# Altium footprint library Apollo.PcbLib: 47 footprints (part 1 of 3)
Each footprint in its own frame and in the unit in brackets; x right, y up, seen from the top. Pads: shape width x height; smd on the part's side, far side on the other; paste and mask are expansions set on the pad; w line width, h text height; cw(c..) or ccw(c..) is an arc to the next point about the centre after c.
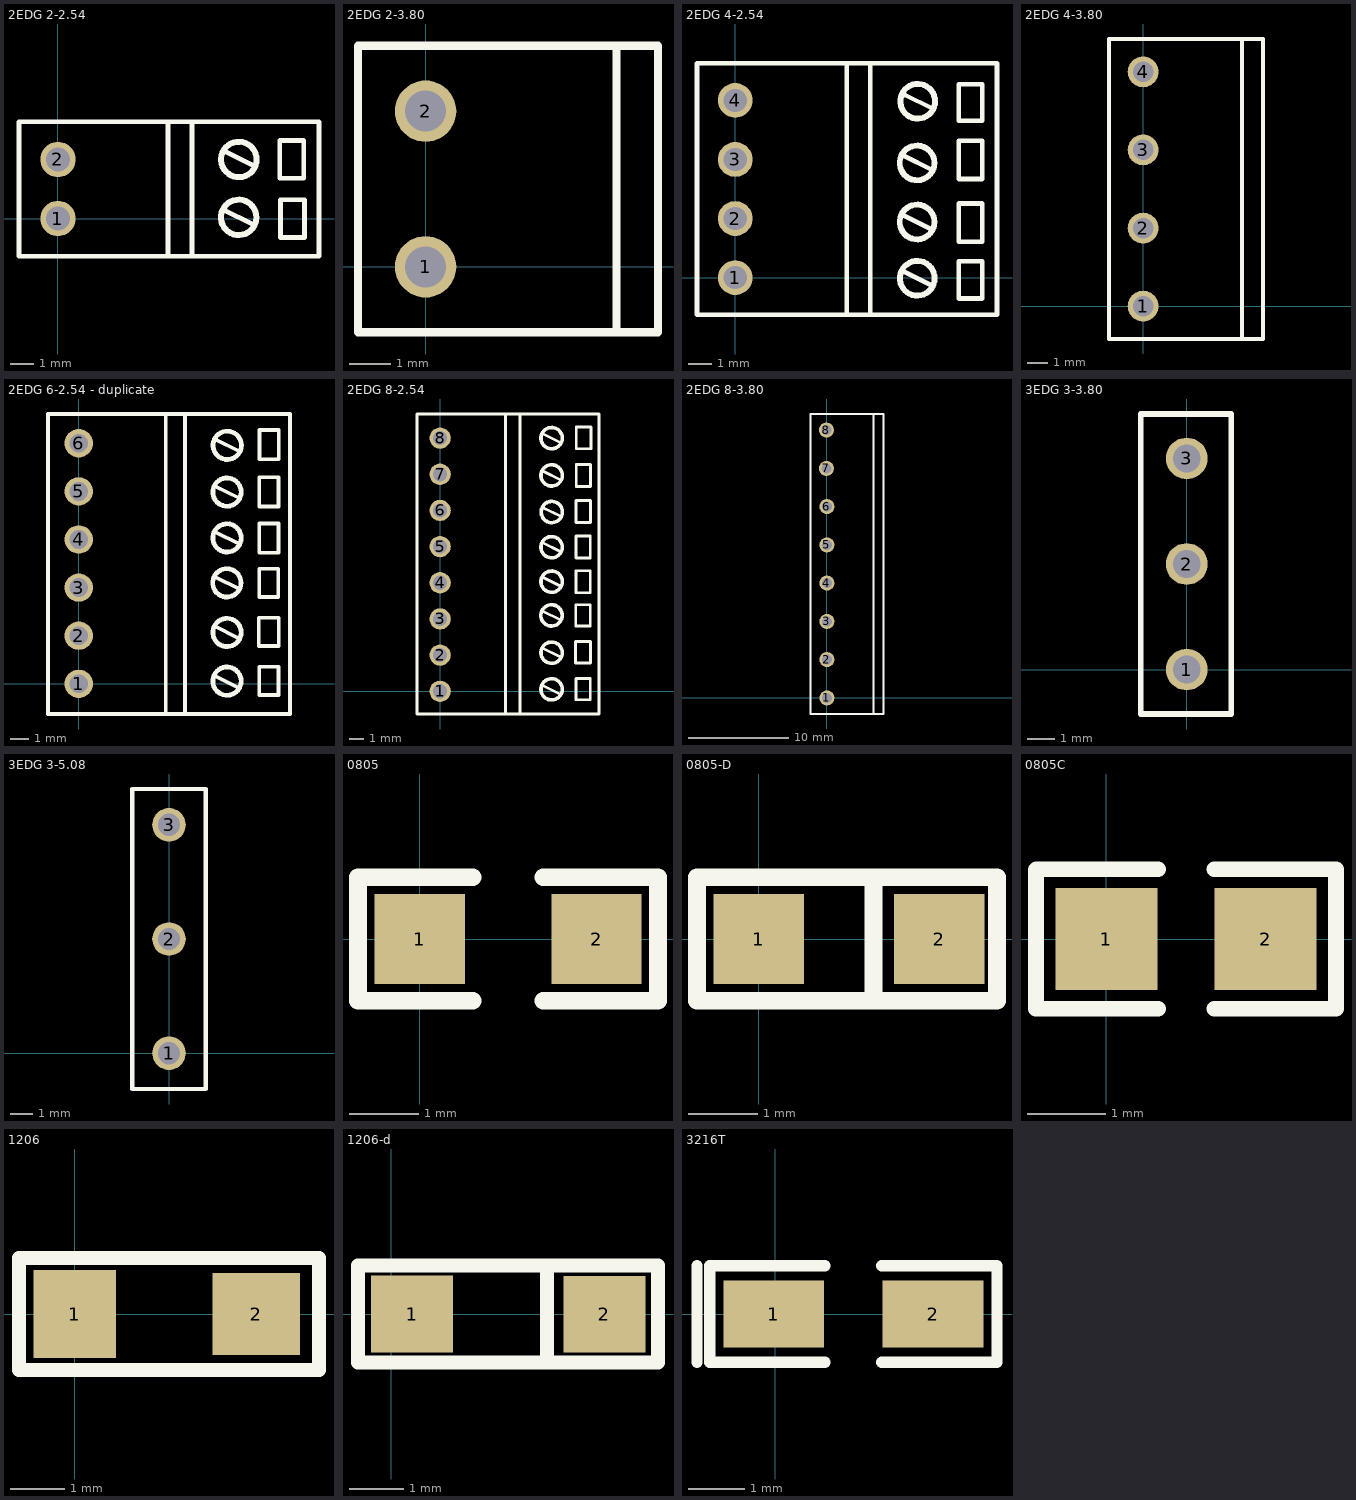
[diagram p0: the footprints below, top view; thin cyan lines are the x and y axes]

## 2EDG 2-2.54 [mm]
pads (2):
  round 1.5 hole 1: 1(0,0) 2(0,2.5)
Top Overlay:
  circle w0.254: c7.65,0.05 r0.75
  circle w0.254: c7.658,2.5 r0.75
  lines w0.2: 4.9,-1.6 -1.65,-1.6 -1.65,4.1 4.66,4.1 ; 5.676,-1.6 5.676,4.1 ; 6.96,0.395 8.28,-0.265 ; 7.012,2.873 8.372,2.193 ; 4.66,4.1 11.05,4.1 11.05,-1.6 4.66,-1.6 4.66,4.1 ; 9.392,1.7 10.408,1.7 10.408,3.3 9.392,3.3 9.392,1.7 ; 9.422,-0.8 10.438,-0.8 10.438,0.8 9.422,0.8 9.422,-0.8

## 2EDG 2-3.80 [mm]
pads (2):
  round 1.5 hole 1: 1(0,0) 2(0,3.8)
Top Overlay:
  lines w0.2: 4.66,-1.6 4.66,5.4 ; 5.65,-1.6 -1.65,-1.6 -1.65,5.4 4.66,5.4 ; 5.676,-1.6 5.676,5.4 4.66,5.4

## 2EDG 4-2.54 [mm]
pads (4):
  round 1.5 hole 1: 1(0,0) 2(0,2.55) 3(0,5.1) 4(0,7.65)
Top Overlay:
  circle w0.254: c7.858,-0.029 r0.75
  circle w0.254: c7.85,4.95 r0.75
  circle w0.254: c7.876,7.612 r0.75
  circle w0.254: c7.85,2.4 r0.75
  lines w0.2: 4.81,-1.6 4.81,-0.986 4.81,9.25 ; 5.826,-1.6 5.826,-0.986 5.826,9.25 ; 7.168,2.735 8.548,2.045 ; 7.216,0.292 8.456,-0.328 ; 7.28,5.259 8.5,4.649 ; 7.33,7.885 8.47,7.315 ; 4.81,9.25 11.3,9.25 11.3,1.184 11.3,-1.6 -1.65,-1.6 -1.65,9.25 4.81,9.25 ; 9.65,-0.9 10.666,-0.9 10.666,0.7 9.65,0.7 9.65,-0.9 ; 9.65,1.55 9.65,3.2 10.666,3.2 10.666,1.55 9.65,1.55 ; 9.65,4.256 10.666,4.256 10.666,5.9 9.65,5.9 9.65,4.256 ; 9.65,6.776 10.666,6.776 10.666,8.35 9.65,8.35 9.65,6.776

## 2EDG 4-3.80 [mm]
pads (4):
  round 1.5 hole 1: 1(0,0) 2(0,3.8) 3(0,7.6) 4(0,11.4)
Top Overlay:
  lines w0.2: 4.35,13 5.826,13 5.826,-0.986 5.826,-1.6 -1.65,-1.6 -1.65,13 4.81,13 4.81,-0.986 4.81,-1.6

## 2EDG 6-2.54 - duplicate [mm]
pads (6):
  round 1.5 hole 1: 1(0,0) 2(0,2.55) 3(0,5.1) 4(0,7.65) 5(0,10.2) 6(0,12.75)
Top Overlay:
  circle w0.254: c7.858,0.14 r0.75
  circle w0.254: c7.858,2.72 r0.75
  circle w0.254: c7.858,10.16 r0.75
  circle w0.254: c7.87,12.64 r0.75
  circle w0.254: c7.858,7.73 r0.75
  circle w0.254: c7.85,5.35 r0.75
  lines w0.2: 4.61,-1.6 4.61,9.264 4.61,14.3 ; 5.626,-1.6 5.626,9.264 5.626,14.25 ; 7.16,3.069 8.52,2.389 ; 7.176,10.501 8.536,9.821 ; 7.18,12.985 8.56,12.295 ; 7.188,0.425 8.528,-0.245 ; 7.204,8.057 8.544,7.387 ; 7.244,5.653 8.484,5.033 ; 4.61,14.3 11.2,14.3 11.2,5.694 11.2,-1.6 -1.632,-1.6 -1.632,3.326 -1.632,12.92 -1.632,14.3 4.61,14.3 ; 9.542,2 9.542,3.5 10.6,3.5 10.6,2 9.542,2 ; 9.564,4.6 10.58,4.6 10.58,6.1 9.564,6.1 9.564,4.6 ; 9.572,-0.6 10.588,-0.6 10.588,0.9 9.572,0.9 9.572,-0.6 ; 9.572,6.95 9.572,8.5 10.588,8.5 10.588,6.95 9.572,6.95 ; 9.572,9.4 10.588,9.4 10.588,10.95 9.572,10.95 9.572,9.4 ; 9.584,11.9 9.584,13.45 10.6,13.45 10.6,11.9 9.584,11.9

## 2EDG 8-2.54 [mm]
pads (8):
  round 1.5 hole 1: 1(0,0) 2(0,2.55) 3(0,5.1) 4(0,7.65) 5(0,10.2) 6(0,12.75) 7(0,15.3) 8(0,17.85)
Top Overlay:
  circle w0.254: c7.85,5.35 r0.75
  circle w0.254: c7.858,7.73 r0.75
  circle w0.254: c7.87,12.64 r0.75
  circle w0.254: c7.858,17.85 r0.75
  circle w0.254: c7.858,15.22 r0.75
  circle w0.254: c7.858,10.16 r0.75
  circle w0.254: c7.858,2.72 r0.75
  circle w0.254: c7.858,0.14 r0.75
  lines w0.2: 4.61,-1.6 4.61,9.264 4.61,19.55 ; 5.626,-1.6 5.626,9.264 5.626,19.55 ; 7.16,3.069 8.52,2.389 ; 7.172,18.193 8.512,17.523 ; 7.176,10.501 8.536,9.821 ; 7.18,12.985 8.56,12.295 ; 7.188,0.425 8.528,-0.245 ; 7.204,8.057 8.544,7.387 ; 7.24,15.529 8.54,14.879 ; 7.244,5.653 8.484,5.033 ; 4.61,19.55 -1.632,19.55 -1.632,12.92 -1.632,3.326 -1.632,-1.6 11.2,-1.6 11.2,5.694 11.2,19.55 4.61,19.55 ; 9.542,2 10.6,2 10.6,3.5 9.542,3.5 9.542,2 ; 9.564,4.6 9.564,6.1 10.58,6.1 10.58,4.6 9.564,4.6 ; 9.572,-0.6 9.572,0.9 10.588,0.9 10.588,-0.6 9.572,-0.6 ; 9.572,6.95 10.588,6.95 10.588,8.5 9.572,8.5 9.572,6.95 ; 9.572,9.4 9.572,10.95 10.588,10.95 10.588,9.4 9.572,9.4 ; 9.584,11.9 10.6,11.9 10.6,13.45 9.584,13.45 9.584,11.9 ; 9.592,14.45 9.592,16 10.608,16 10.608,14.45 9.592,14.45 ; 9.6,17.1 9.6,18.625 10.638,18.625 10.638,17.1 9.6,17.1

## 2EDG 8-3.80 [mm]
pads (8):
  round 1.5 hole 1: 1(0,0) 2(0,3.8) 3(0,7.6) 4(0,11.4) 5(0,15.2) 6(0,19) 7(-0.05,22.8) 8(-0.05,26.6)
Top Overlay:
  lines w0.2: 4.61,-1.6 4.61,9.264 4.61,28.2 ; 5.6,28.2 4.61,28.2 ; 5.626,28.2 5.626,9.264 5.626,-1.6 -1.632,-1.6 -1.632,3.326 -1.632,12.92 -1.632,28.2 4.61,28.2

## 3EDG 3-3.80 [mm]
pads (3):
  round 1.5 hole 1: 1(0,0) 2(0,3.8) 3(0,7.6)
Top Overlay:
  lines w0.2: -1.65,-1.6 -1.65,9.2 1.6,9.2 1.6,2.224 1.6,-1.6 -1.65,-1.6

## 3EDG 3-5.08 [mm]
pads (3):
  round 1.5 hole 1: 1(0,0) 2(0,5.1) 3(0,10.2)
Top Overlay:
  lines w0.2: -1.65,-1.6 1.65,-1.6 1.65,2.174 1.65,11.8 -1.65,11.8 -1.65,-1.6

## 8P8C [mm]

## 0805 [mm]
pads (2):
  rect 1.3x1.3 smd: 1(0,0) 2(2.545,0)
Top Overlay:
  lines w0.254: 0.762,-0.889 -0.889,-0.889 -0.889,0.889 0.762,0.889 ; 1.778,-0.889 3.429,-0.889 3.429,0.889 1.778,0.889

## 0805-D [mm]
pads (2):
  rect 1.3x1.3 smd: 1(0,0) 2(2.596,0)
Top Overlay:
  lines w0.254: 1.651,-0.889 1.651,0.889 ; -0.889,-0.889 -0.889,0.889 3.429,0.889 3.429,-0.889 -0.889,-0.889

## 0805C [mm] "0805无极性电容"
pads (2):
  rect 1.3x1.3 smd: 1(0,0) 2(2.027,0)
Top Overlay:
  lines w0.2: 0.66,-0.889 -0.896,-0.889 -0.896,0 -0.896,0.882 -0.889,0.889 0.66,0.889 ; 1.372,-0.889 2.923,-0.889 2.923,0.887 2.921,0.889 1.372,0.889

## 1206 [mm]
pads (2):
  rect 1.5x1.6 smd: 1(0,0)
  rect 1.6x1.5 smd: 2(3.302,0)
Top Overlay:
  lines w0.254: -1.016,-1.016 -1.016,1.016 4.445,1.016 4.445,-1.016 -1.016,-1.016

## 1206-d [mm]
pads (2):
  rect 1.5x1.4 smd: 1(0.381,0) 2(3.896,-0.001)
Top Overlay:
  lines w0.254: 2.845,-0.889 2.845,0.889 ; -0.61,-0.889 4.877,-0.889 4.877,0.889 -0.61,0.889 -0.61,-0.889

## 3216T [mm] "3216钽电容"
height 2.65
pads (2):
  rect 1.8x1.2 smd: 1(-0.025,0) 2(2.819,0)
Top Overlay:
  lines w0.2: -1.397,-0.864 -1.397,0.864 ; 0.889,-0.864 -1.168,-0.864 -1.168,0.864 0.889,0.864 ; 1.905,-0.864 3.962,-0.864 3.962,0.864 1.905,0.864